# EAGLE library part MS5803-14BA (library MyAmSys)
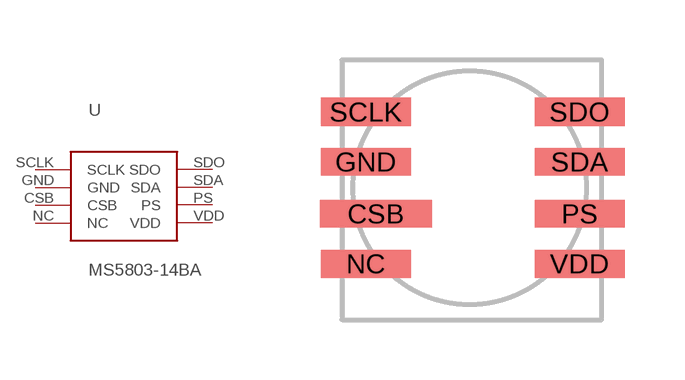
[diagram p0: symbol with the pads of MS5803-14BA; footprint MS5803-14BA]

Designator prefix -

## MS5803-14BA  [MS5803-14BA]
CSB  CSB
GND  GND
NC  NC
PS  PS
SCLK  SCLK
SDA  SDA
SDO  SDO
VDD  VDD

## Footprint MS5803-14BA (pad centres in mm)
smd 2.8 x 0.7: CSB 0.25,-1.3
smd 2.25 x 0.7: GND 0,0; NC 0,-2.55; PS 5.35,-1.3; SCLK 0,1.25; SDA 5.35,0; SDO 5.35,1.25; VDD 5.35,-2.55